# Altium schematic symbol library DAC.SchLib: 1 symbol
Pins are listed as number, name and electrical type; pins without a type are passive.

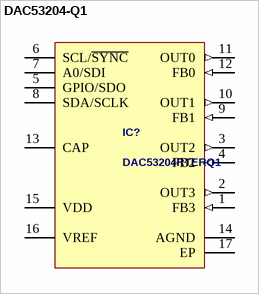
[diagram p0: symbol DAC53204-Q1]

## DAC53204-Q1
designator IC?, comment DAC53204RTERQ1
Digital to Analog Converters - DAC Automotive, 10-bit 4-channel voltage/current output smart DAC with Hi-Z, EEPROM, waveform generator 16-WQFN -40 to 125
footprint QFN50P300X300X80_HS-17N (QFN, 16-Leads, Body 3,00x3,00mm, Pitch 0,50mm, Thermal Pad 1,68x1,68mm, IPC Medium Density)
pins: 1 FB3 (in), 2 OUT3 (out), 3 OUT2 (out), 4 FB2 (in), 5 GPIO/SDO, 6 SCL/~{SYNC}, 7 A0/SDI, 8 SDA/SCLK, 9 FB1 (in), 10 OUT1 (out), 11 OUT0 (out), 12 FB0 (in), 13 CAP, 14 AGND (power), 15 VDD (power), 16 VREF, 17 EP (power)